# Altium footprint library WE-CNSW.PCBLIB: 3 footprints
Each footprint in its own frame and in the unit in brackets; x right, y up, seen from the top. Pads: shape width x height; smd on the part's side, far side on the other; paste and mask are expansions set on the pad; w line width, h text height; cw(c..) or ccw(c..) is an arc to the next point about the centre after c.
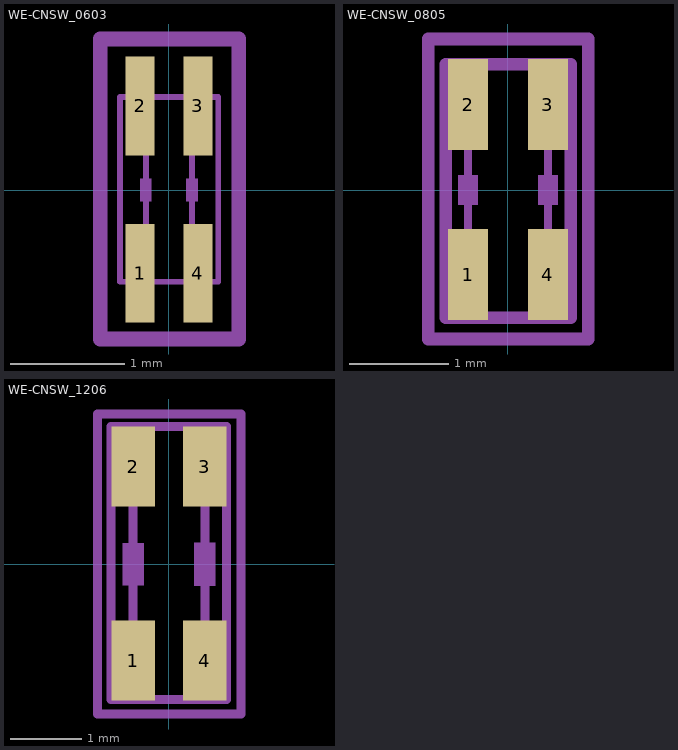
[diagram p0: the footprints below, top view; thin cyan lines are the x and y axes]

## WE-CNSW_0603 [mil]
pads (4):
  rect 10x34 smd: 1(-9.84,-28.54) 2(-9.84,29) 3(10,29) 4(10,-28.54)
Mechanical 16:
  rectangle: -9.84,-3.94 -5.91,4
  rectangle: 6,-3.94 10,4
  lines w2: -7.87,-17.72 -7.87,18 ; 8,-17.72 8,18 ; -16.73,-31.5 17,-31.5 17,32 -16.73,32 -16.73,-31.5
Mechanical 27:
  lines w5: -23.62,-51.18 -23.62,52 24,52 24,-51.18 -23.62,-51.18

## WE-CNSW_0805 [mil]
pads (4):
  rect 16x36 smd: 1(-15.75,-33.46) 2(-15.75,34) 3(16,34) 4(16,-33.46)
Mechanical 16:
  region: 12.03,6.03 12.03,-5.97 19.97,-5.97 19.97,6.03
  region: -19.71,5.94 -19.71,-5.88 -11.78,-5.88 -11.78,5.94
  lines w3: -15.75,-33.46 -15.75,34 ; 16,-33.46 16,34
  lines w5: 25,-50.69 -24.59,-50.69 -24.59,50 25,50 25,-50.5
Mechanical 27:
  lines w5: -31.5,-59.06 -31.5,60 32,60 32,-59.06 -31.5,-59.06

## WE-CNSW_1206 [mil]
pads (4):
  rect 24x44 smd: 1(-19.68,-53.15) 2(-19.68,54) 3(20,54) 4(20,-53.15)
Mechanical 16:
  region: 14.05,12.05 14.05,-11.95 25.95,-11.95 25.95,12.05
  region: -25.64,11.86 -25.64,-11.77 -13.73,-11.77 -13.73,11.86
  lines w5: -19.68,-53.15 -19.68,54 ; 20,-53.15 20,54 ; -31.93,-74.79 -31.93,76 32,76 32,-74.79 -31.93,-74.79
Mechanical 27:
  lines w5: -39.37,-82.68 -39.37,83 40,83 40,-82.68 -39.37,-82.68